# EAGLE library part PCF8523 (library mylib)
PCF8523 I2C RTC and Calendar
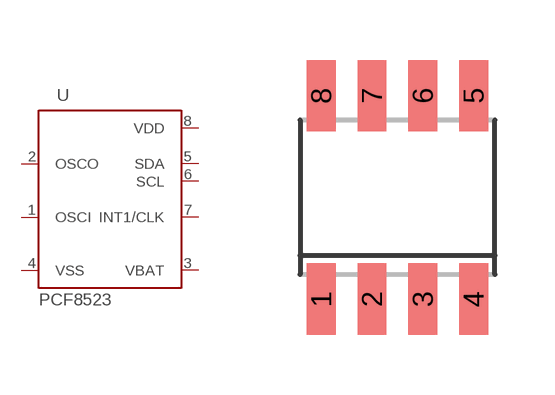
[diagram p4: symbol with the pads of SO08-IRF; footprint SO08-IRF]

Designator prefix U

## PCF8523  [SO08-IRF]
1  OSCI  in
2  OSCO  out
3  VBAT  pwr
4  VSS  pwr
5  SDA
6  SCL  in
7  INT1/CLK  out
8  VDD  pwr

## Footprint SO08-IRF (pad centres in mm)
SO8 Source: http://www.irf.com/product-info/datasheets/data/irf7389.pdf
smd 0.72 x 1.78: 1 -1.905,-2.543; 2 -0.635,-2.543; 3 0.635,-2.543; 4 1.905,-2.543; 5 1.905,2.543; 6 0.635,2.543; 7 -0.635,2.543; 8 -1.905,2.543